# Altium schematic symbol library DC.SchLib: 1 symbol
Pins are listed as number, name and electrical type; pins without a type are passive.

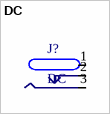
[diagram p0: symbol DC]

## DC
designator J?
footprint DC
pins: 1 9, 2 10, 3 11